# EAGLE library part TCS230/TSL230 (library MlabPaja)
QT113 Charge-Transfer Touch Sensor
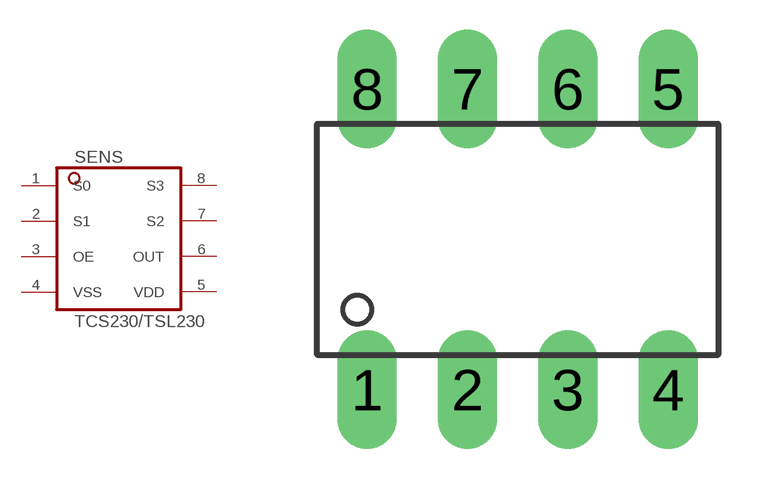
[diagram p11: symbol with the pads of 8PIN_NARROW_2; footprint 8PIN_NARROW_2]

Designator prefix SENS

## TCS230/TSL230  [8PIN_NARROW_2]
1  S0  in
2  S1  in
3  OE  pwr
4  VSS  pwr
5  VDD  pwr
6  OUT  in
7  S2  in
8  S3  in

## Footprint 8PIN_NARROW_2 (pad centres in mm)
Dual In Line Package
drill 1 long: 1 -5.08,-5.08; 2 -2.54,-5.08; 3 0,-5.08; 4 2.54,-5.08; 5 2.54,2.54; 6 0,2.54; 7 -2.54,2.54; 8 -5.08,2.54